# EAGLE library part ZX62D-B-5PA8 (library TAStm32_v4)
CONN RCPT USB
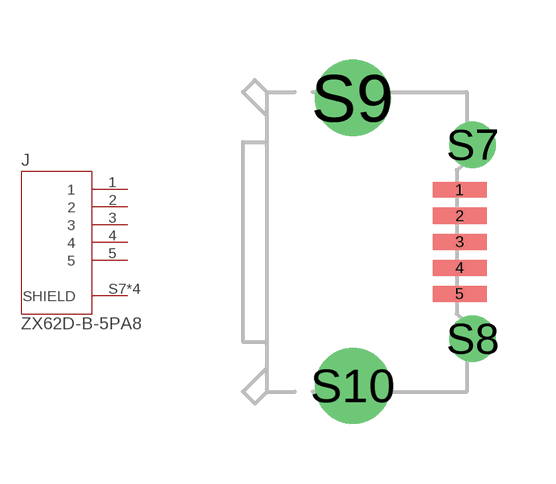
[diagram p8: symbol with the pads of HIROSE_ZX62D-B-5PA8; footprint HIROSE_ZX62D-B-5PA8]

Designator prefix J

## ZX62D-B-5PA8 (AVAILABILITY: Unavailable; DESCRIPTION: 5 Pin Single Port USB 2.0 Micro B Bottom Mount Through Hole Receptacle Male; MF: Hirose; MP: ZX62D-B-5PA8; PACKAGE: None; PRICE: None)  [HIROSE_ZX62D-B-5PA8]
1  1  pas
2  2  pas
3  3  pas
4  4  pas
5  5  pas
S7  SHIELD  pwr
S8  SHIELD  pwr
S9  SHIELD  pwr
S10  SHIELD  pwr

## Footprint HIROSE_ZX62D-B-5PA8 (pad centres in mm)
smd 1.35 x 0.4: 1 2.675,1.3; 2 2.675,0.65; 3 2.675,0; 4 2.675,-0.65; 5 2.675,-1.3
drill 0.65 pad 1.05: S7 3,2.425; S8 3,-2.425
drill 1.25 pad 1.9: S9 0,3.6; S10 0,-3.6